# Altium schematic symbol library Battery.SchLib: 1 symbol
Pins are listed as number, name and electrical type; pins without a type are passive.

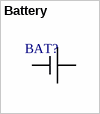
[diagram p0: symbol Battery]

## Battery
designator BAT?
Battery
footprint Battery
footprint CH23-1220LF (1220 Battary holder)
footprint CH28-2023
footprint CR1216
footprint CR1220_SMD (1220 Battary holder)
footprint BH820 (Battery holder 2032, 2025, 2016)
pins: 1 "+", 2 "-"